# Altium schematic symbol library HW_ADHERENT_LANECTRL_R1.SchLib: 1635 symbols (part 4 of 31)
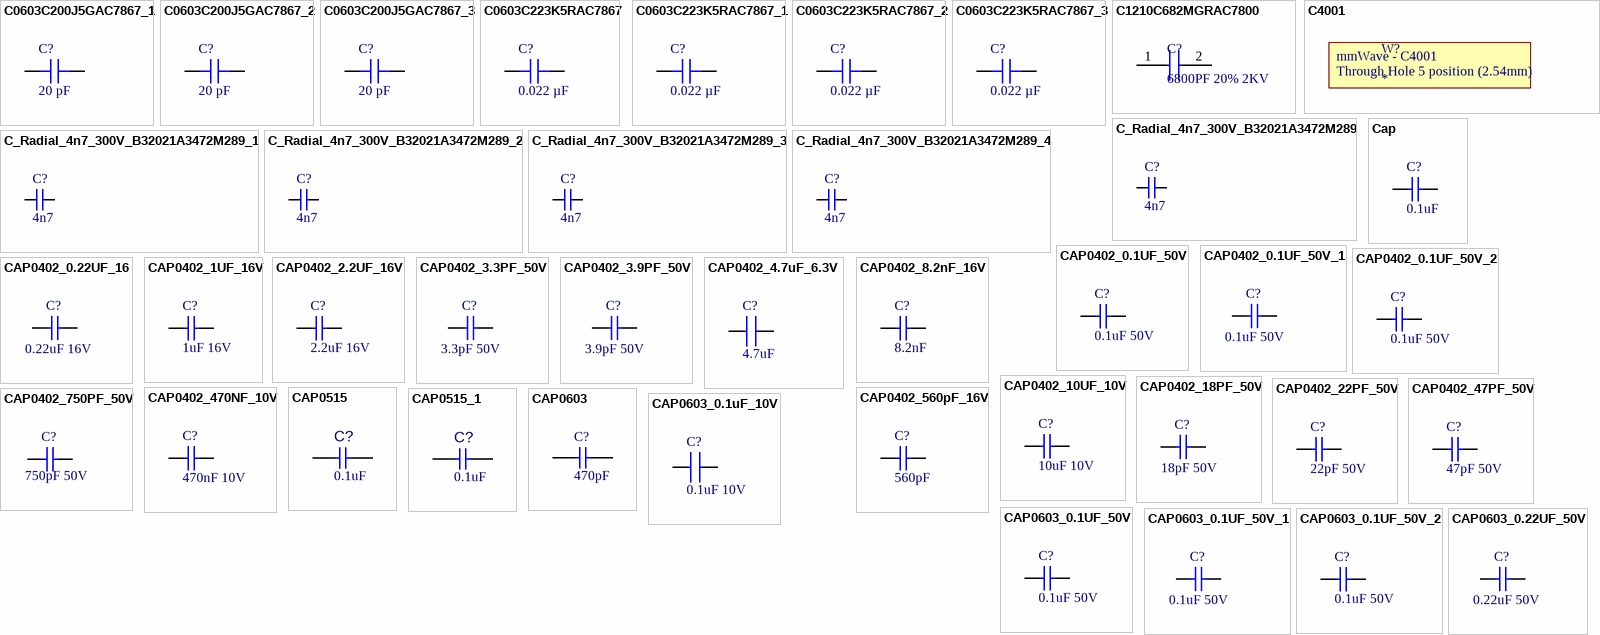
[diagram p54: symbols C0603C200J5GAC7867_1 to CAP0603_0.22UF_50V]

## CAP0402_0.1UF_50V
designator C?, comment value 0.1uF 50V  (hidden comment: CAP CER 0.1UF 50V X7R 0402)
0.1 µF ±10% 50V Ceramic Capacitor X7R 0402 (1005 Metric); Manufacturer Part Number: CL05B104KB54PNC; Order Code: DIGI: 1276-CL05B104KB54PNCTR-ND; Sirius Stock Code: *; LCSC Part Number: C307331; LCSC Manufacturer Part Number: CL05B104KB54PNC
footprint CAP0402(1005)x0.5
pins: 1, 2

## CAP0402_0.1UF_50V_1
designator C?, comment value 0.1uF 50V  (hidden comment: CAP CER 0.1UF 50V X7R 0402)
0.1 µF ±10% 50V Ceramic Capacitor X7R 0402 (1005 Metric); Manufacturer Part Number: GCM155R71H104KE02J; Order Code: DIGI: 490-14514-2-ND
footprint SMC0402
pins: 1, 2

## CAP0402_0.1UF_50V_2
designator C?, comment value 0.1uF 50V  (hidden comment: CAP CER 0.1UF 50V X7R 0402)
0.1 µF ±10% 50V Ceramic Capacitor X7R 0402 (1005 Metric); Manufacturer Part Number: CL05B104KB54PNC; Order Code: DIGI: 1276-CL05B104KB54PNCTR-ND; Sirius Stock Code: *; LCSC Part Number: C307331; LCSC Manufacturer Part Number: CL05B104KB54PNC
footprint CAP0402(1005)x0.5
pins: 1, 2

## CAP0402_0.22UF_16
designator C?, comment value 0.22uF 16V  (hidden comment: CAP CER 0.22UF 16V X7R 0402)
0.22 µF ±10% 16V Ceramic Capacitor X7R 0402 (1005 Metric); Manufacturer Part Number: GCM155R71C224KE02D; Order Code: DIGI: 490-10671-2-ND
footprint SMC0402
pins: 1, 2

## CAP0402_1UF_16V
designator C?, comment value 1uF 16V  (hidden comment: CAP CER 1UF 16V X5R 0402)
1 µF ±10% 16V Ceramic Capacitor X5R 0402 (1005 Metric); Manufacturer Part Number: CL05A105KO5NNNC; Order Code: DIGI: 1276-1067-2-ND; Sirius Stock Code: *; LCSC Part Number: C29266; LCSC Manufacturer Part Number: CL05A105KO5NNNC
footprint CAP0402(1005)x0.5
pins: 1, 2

## CAP0402_2.2UF_16V
designator C?, comment value 2.2uF 16V  (hidden comment: CAP CER 2.2UF 16V X5R 0402)
2.2 µF ±10% 16V Ceramic Capacitor X5R 0402 (1005 Metric); Manufacturer Part Number: CL05A225KO5NQNC; Order Code: DIGI: 1276-1461-2-ND; Sirius Stock Code: *; LCSC Part Number: C170151; LCSC Manufacturer Part Number: CL05A225KO5NQNC
footprint CAP0402(1005)x0.5
pins: 1, 2

## CAP0402_3.3PF_50V
designator C?, comment value 3.3pF 50V  (hidden comment: CAP CER 3.3PF 50V C0G/NP0 0402)
3.3 pF ±0.25pF 50V Ceramic Capacitor C0G, NP0 0402 (1005 Metric); Manufacturer Part Number: GCM1555C1H3R3CA16D; Order Code: DIGI: 490-17751-2-ND
footprint SMC0402
pins: 1, 2

## CAP0402_3.9PF_50V
designator C?, comment value 3.9pF 50V  (hidden comment: CAP CER 3.9PF 50V C0G/NP0 0402)
3.9 pF ±0.25pF 50V Ceramic Capacitor C0G, NP0 0402 (1005 Metric); Manufacturer Part Number: GCM1555C1H3R9CA16D; Order Code: DIGI: 490-14870-2-ND
footprint SMC0402
pins: 1, 2

## CAP0402_4.7uF_6.3V
designator C?, comment 4.7uF
4.7 µF ±20% 6.3V Ceramic Capacitor X5R 0402 (1005 Metric); Manufacturer Part Number: GRM155R60J475ME87D; Manufacturer Name: TDK Corporation; Capacitance: 4.7uF 6.3V; Tolerance: ±10%; Voltage - Rated: 6.3V
footprint CAP0402
pins: 1, 2

## CAP0402_8.2nF_16V
designator C?, comment 8.2nF
8200 pF ±10% 16V Ceramic Capacitor X7R 0402 (1005 Metric); Manufacturer Part Number: GRM155R71C822KA01D; LCSC Manufacturer Part Number: CL05C150JB5NNNC; Order Code: DIGI: 1276-1179-2-ND; Sirius Stock Code: *; LCSC Part Number: C86285; Value: 8.2nF
footprint CAP0402
pins: 1, 2

## CAP0402_10UF_10V
designator C?, comment value 10uF 10V  (hidden comment: CAP CER 10UF 10V X5R 0402)
10 µF ±20% 10V Ceramic Capacitor X5R 0402 (1005 Metric); Manufacturer Part Number: CL05A106MP5NUNC; Order Code: DIGI: 1276-1450-2-ND; Sirius Stock Code: *; LCSC Part Number: C315248; LCSC Manufacturer Part Number: CL05A106MP5NUNC
footprint CAP0402(1005)x0.5
pins: 1, 2

## CAP0402_18PF_50V
designator C?, comment value 18pF 50V  (hidden comment: CAP CER 18PF 50V C0G/NPO 0402)
18 pF ±5% 50V Ceramic Capacitor C0G, NP0 0402 (1005 Metric); Manufacturer Part Number: CC0402JRNPO9BN180; Order Code: DIGI: 311-1415-2-ND; Sirius Stock Code: *; LCSC Part Number: C106202; LCSC Manufacturer Part Number: CC0402JRNPO9BN180
footprint CAP0402(1005)x0.5
pins: 1, 2

## CAP0402_22PF_50V
designator C?, comment value 22pF 50V  (hidden comment: CAP CER 22PF 50V C0G/NPO 0402)
22 pF ±5% 50V Ceramic Capacitor C0G, NP0 0402 (1005 Metric); Manufacturer Part Number: CC0402JRNPO9BN220; Order Code: DIGI: 311-1018-2-ND; Sirius Stock Code: *; LCSC Part Number: C106203; LCSC Manufacturer Part Number: CC0402JRNPO9BN220
footprint CAP0402(1005)x0.5
pins: 1, 2

## CAP0402_47PF_50V
designator C?, comment value 47pF 50V  (hidden comment: CAP CER 47PF 50V C0G/NPO 0402)
47 pF ±5% 50V Ceramic Capacitor C0G, NP0 0402 (1005 Metric); Manufacturer Part Number: CC0402JRNPO9BN470; Order Code: DIGI: 311-1021-2-ND; Sirius Stock Code: *; LCSC Part Number: C60137; LCSC Manufacturer Part Number: CC0402JRNPO9BN470
footprint CAP0402(1005)x0.5
pins: 1, 2

## CAP0402_470NF_10V
designator C?, comment value 470nF 10V  (hidden comment: CAP CER 0.47UF 10V X5R 0402)
0.47 µF ±10% 10V Ceramic Capacitor X5R 0402 (1005 Metric); Manufacturer Part Number: CL05A474KP5NNNC; Order Code: DIGI: 1276-1173-2-ND; Sirius Stock Code: *; LCSC Part Number: C47339; LCSC Manufacturer Part Number: CL05A474KP5NNNC
footprint CAP0402(1005)x0.5
pins: 1, 2

## CAP0402_560pF_16V
designator C?, comment 560pF
560 pF ±1% 16V Ceramic Capacitor X8R 0402 (1005 Metric); Manufacturer Part Number: C0402C561F4HACAUTO; LCSC Manufacturer Part Number: CL05C150JB5NNNC; Order Code: DIGI: 1276-1179-2-ND; Sirius Stock Code: *; LCSC Part Number: C86285; Value: 560pF
footprint CAP0402
pins: 1, 2

## CAP0402_750PF_50V
designator C?, comment value 750pF 50V  (hidden comment: CAP CER 750PF 50V C0G/NP0 0402)
750 pF ±5% 50V Ceramic Capacitor C0G, NP0 0402 (1005 Metric); Manufacturer Part Number: GCM1555C1H751JA16D; Order Code: DIGI: 490-GCM1555C1H751JA16DTR-ND; Sirius Stock Code: *; LCSC Part Number: C710656; LCSC Manufacturer Part Number: GCM1555C1H751JA16D
footprint CAP0402(1005)x0.5
pins: 1, 2

## CAP0515
designator C?, comment 0.1uF
CAP CER 0.1UF 50V X7R 0402; Manufacturer Part Number: C1005X7R1H104K050BB; Manufacturer: TDK Corporation; Value: 0.1uF; Revision: 1; Supplier Part Number: 445-5932-1-ND
footprint 0402_C (MODIFIED BY DN_MH - 16JAN17; CHECKED BY DN_TN - 18JAN17)
pins: 1, 2

## CAP0515_1
designator C?, comment 0.1uF
CAP CER 0.1UF 50V X7R 0402; Manufacturer Part Number: C1005X7R1H104K050BB; Manufacturer: TDK Corporation; Value: 0.1uF; Revision: 1; Supplier Part Number: 445-5932-1-ND
footprint 0402_C (MODIFIED BY DN_MH - 16JAN17; CHECKED BY DN_TN - 18JAN17)
pins: 1, 2

## CAP0603
designator C?, comment 470pF
CAP, MLCC, C0G/NP0, 470PF, 50V, 0603; Product Range:YAGEO - CC Series; Capacitance:470pF; Capacitance Tolerance:± 5%; Dielectric Characteristic:C0G / NP0; Voltage Rating:50V; Ceramic Capacitor Case:0603 [1608 Metric]; Operating ;RoHS Compliant: Yes; Manufacturer: Yageo; Manufacturer Part Number: CC0603JRNPO9BN471; Dielectric: C0G; Insulation Resistance: 100GR; ComponentLink1URL: https://chn-vm-apps.microchip.com/mchprepo/parts/Datasheets/smccp.pdf; ComponentLink1Description: Datasheet; Supplier 1: Digi-Key; Supplier Part Number 1: 311-1520-1-ND; RoHS: Yes; Category: Ceramic Capacitors; Stock 1: 310942; Pricing 1: 1=0,12000, 10=0,08400, 50=0,04780, 100=0,03970, 500=0,02782, 1000=0,02303 (USD); Mount: Surface Mount; Case/Package: 0603; Number of Pins: 2; Case Code (Metric): 1608; Case Code (Imperial): 0603; Dielectric Material: Ceramic; Min Operating Temperature: -55°C; Max Operating Temperature: 125°C; Capacitance: 470pF; Tolerance: 5%; Voltage: 50V; Voltage Rating: 50V; Packaging: Tape and Reel; Voltage Rating (DC): 50V; Package Quantity: 1; Termination: SMD/SMT; Resistor Type: Ceramic; Series: CC; Length: 1.6mm; Width: 0.031inch; Height: 0.8mm; Depth: 0.8mm; Thickness: 0.035inch; Radiation Hardening: No; RoHS Compliant: Yes; REACH SVHC: No SVHC; Lead Free: Lead Free; ComponentLink2URL: https://datasheet.ciiva.com/176/mlccorderingcode-176597.pdf?src-supplier=Digi-Key; ComponentLink2Description: https://datasheet.ciiva.com/176/mlccorderingcode-176597.pdf?src-supplier=Digi-Key; ComponentLink3URL: https://datasheet.ciiva.com/7978/1132289-7978149.pdf?src-supplier=Element14; ComponentLink3Description: https://datasheet.ciiva.com/7978/1132289-7978149.pdf?src-supplier=Element14; ComponentLink4URL: https://datasheet.ciiva.com/176/mlccorderingcode-176598.pdf?src-supplier=Digi-Key; ComponentLink4Description: https://datasheet.ciiva.com/176/mlccorderingcode-176598.pdf?src-supplier=Digi-Key; ComponentLink5URL: https://datasheet.ciiva.com/8033/1734582-8033750.pdf?src-supplier=Element14; ComponentLink5Description: https://datasheet.ciiva.com/8033/1734582-8033750.pdf?src-supplier=Element14; ComponentLink6URL: https://datasheet.ciiva.com/176/mlccorderingcode-176599.pdf?src-supplier=Digi-Key; ComponentLink6Description: https://datasheet.ciiva.com/176/mlccorderingcode-176599.pdf?src-supplier=Digi-Key; ComponentLink7URL: https://datasheet.ciiva.com/15189/getdatasheetpartid-403537-15189147.pdf?src-supplier=Verical; ComponentLink7Description: https://datasheet.ciiva.com/15189/getdatasheetpartid-403537-15189147.pdf?src-supplier=Verical; ComponentLink8URL: https://datasheet.ciiva.com/11464/upy-gp-np0-16v-to-50v-8-11464732.pdf?src-supplier=Avnet; ComponentLink8Description: https://datasheet.ciiva.com/11464/upy-gp-np0-16v-to-50v-8-11464732.pdf?src-supplier=Avnet; ComponentLink9URL: https://datasheet.ciiva.com/13386/upy-gp-np0-16v-to-50v-8-13386333.pdf?src-supplier=Mouser; ComponentLink9Description: https://datasheet.ciiva.com/13386/upy-gp-np0-16v-to-50v-8-13386333.pdf?src-supplier=Mouser; ComponentLink10URL: https://datasheet.ciiva.com/28450/1443161-28450510.pdf?src-supplier=Element14; ComponentLink10Description: https://datasheet.ciiva.com/28450/1443161-28450510.pdf?src-supplier=Element14
footprint C 0603(1608)x0.8_3
pins: 1, 2

## CAP0603_0.1uF_10V
designator C?, comment 0.1uF 10V
0.1 µF ±10% 10V Ceramic Capacitor X7R 0603 (1608 Metric); Manufacturer Name: AVX; Manufacturer Part Number: 0603ZC104KAT2A; Datasheet Link: https://componentsearchengine.com/Datasheets/1/06031A100FAT2A.pdf; Height: 0.9mm; Mouser Part Number: 581-0603ZC104K; Mouser Price/Stock: https://www.mouser.co.uk/ProductDetail/AVX/0603ZC104KAT2A?qs=pf7pOjfHGZYfu9op9dQPDA%3D%3D; Arrow Part Number: 0603ZC104KAT2A; Arrow Price/Stock: https://www.arrow.com/en/products/0603zc104kat2a/avx
footprint CAP0603
pins: 1, 2

## CAP0603_0.1UF_50V
designator C?, comment value 0.1uF 50V  (hidden comment: CAP CER 0.1UF 50V X7R 0603)
0.1 µF ±10% 50V Ceramic Capacitor X7R 0603 (1608 Metric); Manufacturer Part Number: CL10B104KB8NNNL; LCSC Manufacturer Part Number: CL10B104KB8NNNC; Order Code: DIGI:1276-CL10B104KB8NNNLTR-ND; Sirius Stock Code: A063-AGC10300001226; LCSC Part Number: C1591
footprint SMC0603
pins: 1, 2

## CAP0603_0.1UF_50V_1
designator C?, comment value 0.1uF 50V  (hidden comment: CAP CER 0.1UF 50V X7R 0603)
0.1 µF ±10% 50V Ceramic Capacitor X7R 0603 (1608 Metric); Manufacturer Part Number: CL10B104KB8WPNC; Order Code: DIGI: 1276-6854-2-ND
footprint SMC0603
pins: 1, 2

## CAP0603_0.1UF_50V_2
designator C?, comment value 0.1uF 50V  (hidden comment: CAP CER 0.1UF 50V X7R 0603)
0.1 µF ±10% 50V Ceramic Capacitor X7R 0603 (1608 Metric); Manufacturer Part Number: CL10B104KB8NNNL; LCSC Manufacturer Part Number: CL10B104KB8NNNC; Order Code: DIGI:1276-CL10B104KB8NNNLTR-ND; Sirius Stock Code: A063-AGC10300001226; LCSC Part Number: C1591
footprint SMC0603
pins: 1, 2

## CAP0603_0.22UF_50V
designator C?, comment value 0.22uF 50V  (hidden comment: CAP CER 0.22UF 50V X7R 0603)
0.22 µF ±10% 50V Ceramic Capacitor X7R 0603 (1608 Metric); Manufacturer Part Number: GCM188R71H224KA64D; Order Code: DIGI: 490-5402-2-ND
footprint SMC0603
pins: 1, 2

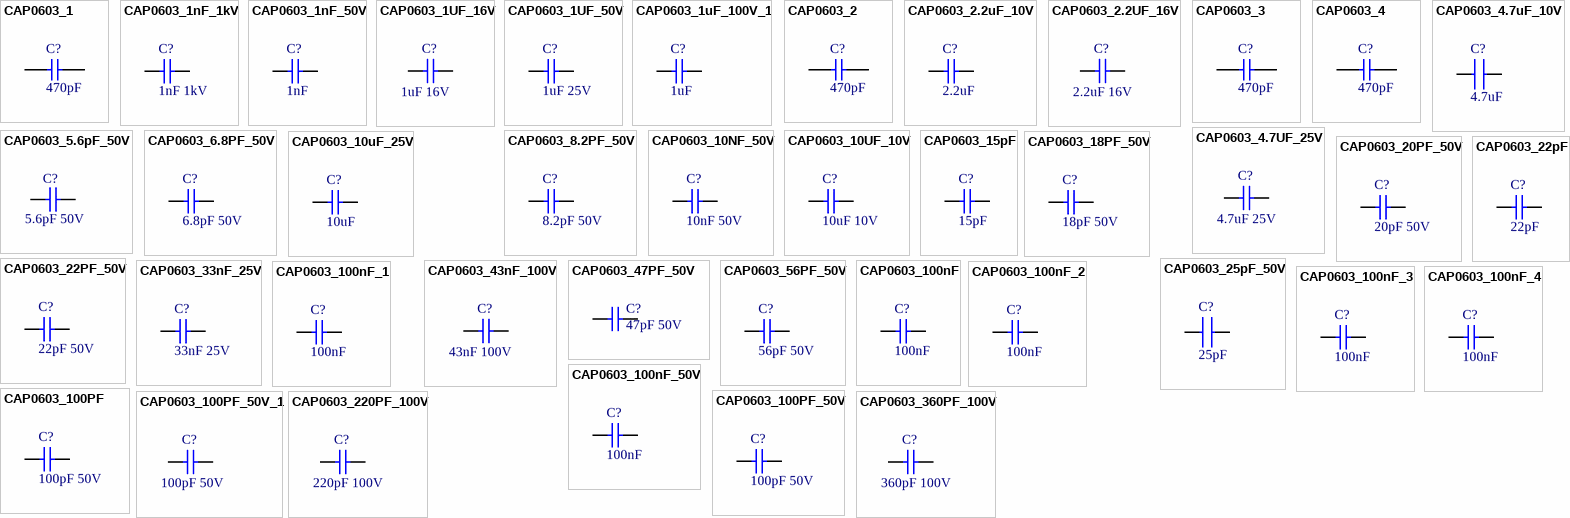
[diagram p7: symbols CAP0603_1 to CAP0603_360PF_100V]

## CAP0603_1
designator C?, comment 470pF
CAP, MLCC, C0G/NP0, 470PF, 50V, 0603; Product Range:YAGEO - CC Series; Capacitance:470pF; Capacitance Tolerance:± 5%; Dielectric Characteristic:C0G / NP0; Voltage Rating:50V; Ceramic Capacitor Case:0603 [1608 Metric]; Operating ;RoHS Compliant: Yes; Manufacturer: Yageo; Manufacturer Part Number: CC0603JRNPO9BN471; Dielectric: C0G; Insulation Resistance: 100GR; ComponentLink1URL: https://chn-vm-apps.microchip.com/mchprepo/parts/Datasheets/smccp.pdf; ComponentLink1Description: Datasheet; Supplier 1: Digi-Key; Supplier Part Number 1: 311-1520-1-ND; RoHS: Yes; Category: Ceramic Capacitors; Stock 1: 310942; Pricing 1: 1=0,12000, 10=0,08400, 50=0,04780, 100=0,03970, 500=0,02782, 1000=0,02303 (USD); Mount: Surface Mount; Case/Package: 0603; Number of Pins: 2; Case Code (Metric): 1608; Case Code (Imperial): 0603; Dielectric Material: Ceramic; Min Operating Temperature: -55°C; Max Operating Temperature: 125°C; Capacitance: 470pF; Tolerance: 5%; Voltage: 50V; Voltage Rating: 50V; Packaging: Tape and Reel; Voltage Rating (DC): 50V; Package Quantity: 1; Termination: SMD/SMT; Resistor Type: Ceramic; Series: CC; Length: 1.6mm; Width: 0.031inch; Height: 0.8mm; Depth: 0.8mm; Thickness: 0.035inch; Radiation Hardening: No; RoHS Compliant: Yes; REACH SVHC: No SVHC; Lead Free: Lead Free; ComponentLink2URL: https://datasheet.ciiva.com/176/mlccorderingcode-176597.pdf?src-supplier=Digi-Key; ComponentLink2Description: https://datasheet.ciiva.com/176/mlccorderingcode-176597.pdf?src-supplier=Digi-Key; ComponentLink3URL: https://datasheet.ciiva.com/7978/1132289-7978149.pdf?src-supplier=Element14; ComponentLink3Description: https://datasheet.ciiva.com/7978/1132289-7978149.pdf?src-supplier=Element14; ComponentLink4URL: https://datasheet.ciiva.com/176/mlccorderingcode-176598.pdf?src-supplier=Digi-Key; ComponentLink4Description: https://datasheet.ciiva.com/176/mlccorderingcode-176598.pdf?src-supplier=Digi-Key; ComponentLink5URL: https://datasheet.ciiva.com/8033/1734582-8033750.pdf?src-supplier=Element14; ComponentLink5Description: https://datasheet.ciiva.com/8033/1734582-8033750.pdf?src-supplier=Element14; ComponentLink6URL: https://datasheet.ciiva.com/176/mlccorderingcode-176599.pdf?src-supplier=Digi-Key; ComponentLink6Description: https://datasheet.ciiva.com/176/mlccorderingcode-176599.pdf?src-supplier=Digi-Key; ComponentLink7URL: https://datasheet.ciiva.com/15189/getdatasheetpartid-403537-15189147.pdf?src-supplier=Verical; ComponentLink7Description: https://datasheet.ciiva.com/15189/getdatasheetpartid-403537-15189147.pdf?src-supplier=Verical; ComponentLink8URL: https://datasheet.ciiva.com/11464/upy-gp-np0-16v-to-50v-8-11464732.pdf?src-supplier=Avnet; ComponentLink8Description: https://datasheet.ciiva.com/11464/upy-gp-np0-16v-to-50v-8-11464732.pdf?src-supplier=Avnet; ComponentLink9URL: https://datasheet.ciiva.com/13386/upy-gp-np0-16v-to-50v-8-13386333.pdf?src-supplier=Mouser; ComponentLink9Description: https://datasheet.ciiva.com/13386/upy-gp-np0-16v-to-50v-8-13386333.pdf?src-supplier=Mouser; ComponentLink10URL: https://datasheet.ciiva.com/28450/1443161-28450510.pdf?src-supplier=Element14; ComponentLink10Description: https://datasheet.ciiva.com/28450/1443161-28450510.pdf?src-supplier=Element14
footprint C 0603(1608)x0.8_3
pins: 1, 2

## CAP0603_1nF_1kV
designator C?, comment 1nF 1kV
1000 pF ±10% 1000V (1kV) Ceramic Capacitor X7R 0603 (1608 Metric); Manufacturer Part Number: C0603W102KDRACAUTO; Order Code: DIGI:1276-CL10B104KB8NNNLTR-ND; Sirius Stock Code: A063-AGC10300001226; Value: 1nF 1kV
footprint CAP0603 (CAPACITOR 0603)
pins: 1, 2

## CAP0603_1nF_50V
designator C?, comment 1nF
1000 pF ±10% 50V Ceramic Capacitor X7R 0603 (1608 Metric); Manufacturer Part Number: CL10B102KB8NNNC; Order Code: DIGI:1276-CL10B104KB8NNNLTR-ND; Sirius Stock Code: A063-AGC10300001226; Value: 1nF 50V
footprint CAP0603 (CAPACITOR 0603)
pins: 1, 2

## CAP0603_1UF_16V
designator C?, comment value 1uF 16V  (hidden comment: CAP CER 1UF 16V X7R 0603)
1 µF ±10% 16V Ceramic Capacitor X7R 0603 (1608 Metric); Manufacturer Part Number: CGA3E1X7R1C105K080AC; Order Code: DIGI: 445-12539-2-ND
footprint SMC0603
pins: 1, 2

## CAP0603_1UF_50V
designator C?, comment value 1uF 25V  (hidden comment: CAP CER 1UF 25V X5R 0603)
1 µF ±10% 25V Ceramic Capacitor X5R 0603 (1608 Metric); Manufacturer Part Number: CL10A105KA8NNNC; Order Code: Digi: 1276-1102-2-ND; Sirius Stock Code: *; LCSC Part Number: C5673; LCSC Manufacturer Part Number: CL10A105KA8NNNC
footprint SMC0603
pins: 1, 2

## CAP0603_1uF_100V_1
designator C?, comment value 1uF  (hidden comment: 1uF 100V)
1 µF ±10% 100V Ceramic Capacitor X7R 0805 (2012 Metric); Manufacturer Part Number: 08051C105K4Z2A; Order Code: DIGI : 399-1061-1-ND
footprint CAP0603
pins: 1, 2

## CAP0603_2
designator C?, comment 470pF
CAP, MLCC, C0G/NP0, 470PF, 50V, 0603; Product Range:YAGEO - CC Series; Capacitance:470pF; Capacitance Tolerance:± 5%; Dielectric Characteristic:C0G / NP0; Voltage Rating:50V; Ceramic Capacitor Case:0603 [1608 Metric]; Operating ;RoHS Compliant: Yes; Manufacturer: Yageo; Manufacturer Part Number: CC0603JRNPO9BN471; Dielectric: C0G; Insulation Resistance: 100GR; ComponentLink1URL: https://chn-vm-apps.microchip.com/mchprepo/parts/Datasheets/smccp.pdf; ComponentLink1Description: Datasheet; Supplier 1: Digi-Key; Supplier Part Number 1: 311-1520-1-ND; RoHS: Yes; Category: Ceramic Capacitors; Stock 1: 310942; Pricing 1: 1=0,12000, 10=0,08400, 50=0,04780, 100=0,03970, 500=0,02782, 1000=0,02303 (USD); Mount: Surface Mount; Case/Package: 0603; Number of Pins: 2; Case Code (Metric): 1608; Case Code (Imperial): 0603; Dielectric Material: Ceramic; Min Operating Temperature: -55°C; Max Operating Temperature: 125°C; Capacitance: 470pF; Tolerance: 5%; Voltage: 50V; Voltage Rating: 50V; Packaging: Tape and Reel; Voltage Rating (DC): 50V; Package Quantity: 1; Termination: SMD/SMT; Resistor Type: Ceramic; Series: CC; Length: 1.6mm; Width: 0.031inch; Height: 0.8mm; Depth: 0.8mm; Thickness: 0.035inch; Radiation Hardening: No; RoHS Compliant: Yes; REACH SVHC: No SVHC; Lead Free: Lead Free; ComponentLink2URL: https://datasheet.ciiva.com/176/mlccorderingcode-176597.pdf?src-supplier=Digi-Key; ComponentLink2Description: https://datasheet.ciiva.com/176/mlccorderingcode-176597.pdf?src-supplier=Digi-Key; ComponentLink3URL: https://datasheet.ciiva.com/7978/1132289-7978149.pdf?src-supplier=Element14; ComponentLink3Description: https://datasheet.ciiva.com/7978/1132289-7978149.pdf?src-supplier=Element14; ComponentLink4URL: https://datasheet.ciiva.com/176/mlccorderingcode-176598.pdf?src-supplier=Digi-Key; ComponentLink4Description: https://datasheet.ciiva.com/176/mlccorderingcode-176598.pdf?src-supplier=Digi-Key; ComponentLink5URL: https://datasheet.ciiva.com/8033/1734582-8033750.pdf?src-supplier=Element14; ComponentLink5Description: https://datasheet.ciiva.com/8033/1734582-8033750.pdf?src-supplier=Element14; ComponentLink6URL: https://datasheet.ciiva.com/176/mlccorderingcode-176599.pdf?src-supplier=Digi-Key; ComponentLink6Description: https://datasheet.ciiva.com/176/mlccorderingcode-176599.pdf?src-supplier=Digi-Key; ComponentLink7URL: https://datasheet.ciiva.com/15189/getdatasheetpartid-403537-15189147.pdf?src-supplier=Verical; ComponentLink7Description: https://datasheet.ciiva.com/15189/getdatasheetpartid-403537-15189147.pdf?src-supplier=Verical; ComponentLink8URL: https://datasheet.ciiva.com/11464/upy-gp-np0-16v-to-50v-8-11464732.pdf?src-supplier=Avnet; ComponentLink8Description: https://datasheet.ciiva.com/11464/upy-gp-np0-16v-to-50v-8-11464732.pdf?src-supplier=Avnet; ComponentLink9URL: https://datasheet.ciiva.com/13386/upy-gp-np0-16v-to-50v-8-13386333.pdf?src-supplier=Mouser; ComponentLink9Description: https://datasheet.ciiva.com/13386/upy-gp-np0-16v-to-50v-8-13386333.pdf?src-supplier=Mouser; ComponentLink10URL: https://datasheet.ciiva.com/28450/1443161-28450510.pdf?src-supplier=Element14; ComponentLink10Description: https://datasheet.ciiva.com/28450/1443161-28450510.pdf?src-supplier=Element14
footprint C 0603(1608)x0.8_3
pins: 1, 2

## CAP0603_2.2uF_10V
designator C?, comment 2.2uF
2.2 µF ±10% 10V Ceramic Capacitor X5R 0603 (1608 Metric); Manufacturer Name: KEMET; Manufacturer Part Number: C0603C225K8PAC7867; Datasheet Link: https://componentsearchengine.com/Datasheets/1/06031A100FAT2A.pdf; Height: 0.9mm
footprint CAP0603
pins: 1, 2

## CAP0603_2.2UF_16V
designator C?, comment value 2.2uF 16V  (hidden comment: CAP CER 4.7UF 25V X5R 0603)
2.2 µF ±10% 16V Ceramic Capacitor X7S 0603 (1608 Metric); Manufacturer Part Number: GRT188C71C225KE13D; Order Code: DIGI: 490-GRT188C71C225KE13DTR-ND
footprint SMC0603
pins: 1, 2

## CAP0603_3
designator C?, comment 470pF
CAP, MLCC, C0G/NP0, 470PF, 50V, 0603; Product Range:YAGEO - CC Series; Capacitance:470pF; Capacitance Tolerance:± 5%; Dielectric Characteristic:C0G / NP0; Voltage Rating:50V; Ceramic Capacitor Case:0603 [1608 Metric]; Operating ;RoHS Compliant: Yes; Manufacturer: Yageo; Manufacturer Part Number: CC0603JRNPO9BN471; Dielectric: C0G; Insulation Resistance: 100GR; ComponentLink1URL: https://chn-vm-apps.microchip.com/mchprepo/parts/Datasheets/smccp.pdf; ComponentLink1Description: Datasheet; Supplier 1: Digi-Key; Supplier Part Number 1: 311-1520-1-ND; RoHS: Yes; Category: Ceramic Capacitors; Stock 1: 310942; Pricing 1: 1=0,12000, 10=0,08400, 50=0,04780, 100=0,03970, 500=0,02782, 1000=0,02303 (USD); Mount: Surface Mount; Case/Package: 0603; Number of Pins: 2; Case Code (Metric): 1608; Case Code (Imperial): 0603; Dielectric Material: Ceramic; Min Operating Temperature: -55°C; Max Operating Temperature: 125°C; Capacitance: 470pF; Tolerance: 5%; Voltage: 50V; Voltage Rating: 50V; Packaging: Tape and Reel; Voltage Rating (DC): 50V; Package Quantity: 1; Termination: SMD/SMT; Resistor Type: Ceramic; Series: CC; Length: 1.6mm; Width: 0.031inch; Height: 0.8mm; Depth: 0.8mm; Thickness: 0.035inch; Radiation Hardening: No; RoHS Compliant: Yes; REACH SVHC: No SVHC; Lead Free: Lead Free; ComponentLink2URL: https://datasheet.ciiva.com/176/mlccorderingcode-176597.pdf?src-supplier=Digi-Key; ComponentLink2Description: https://datasheet.ciiva.com/176/mlccorderingcode-176597.pdf?src-supplier=Digi-Key; ComponentLink3URL: https://datasheet.ciiva.com/7978/1132289-7978149.pdf?src-supplier=Element14; ComponentLink3Description: https://datasheet.ciiva.com/7978/1132289-7978149.pdf?src-supplier=Element14; ComponentLink4URL: https://datasheet.ciiva.com/176/mlccorderingcode-176598.pdf?src-supplier=Digi-Key; ComponentLink4Description: https://datasheet.ciiva.com/176/mlccorderingcode-176598.pdf?src-supplier=Digi-Key; ComponentLink5URL: https://datasheet.ciiva.com/8033/1734582-8033750.pdf?src-supplier=Element14; ComponentLink5Description: https://datasheet.ciiva.com/8033/1734582-8033750.pdf?src-supplier=Element14; ComponentLink6URL: https://datasheet.ciiva.com/176/mlccorderingcode-176599.pdf?src-supplier=Digi-Key; ComponentLink6Description: https://datasheet.ciiva.com/176/mlccorderingcode-176599.pdf?src-supplier=Digi-Key; ComponentLink7URL: https://datasheet.ciiva.com/15189/getdatasheetpartid-403537-15189147.pdf?src-supplier=Verical; ComponentLink7Description: https://datasheet.ciiva.com/15189/getdatasheetpartid-403537-15189147.pdf?src-supplier=Verical; ComponentLink8URL: https://datasheet.ciiva.com/11464/upy-gp-np0-16v-to-50v-8-11464732.pdf?src-supplier=Avnet; ComponentLink8Description: https://datasheet.ciiva.com/11464/upy-gp-np0-16v-to-50v-8-11464732.pdf?src-supplier=Avnet; ComponentLink9URL: https://datasheet.ciiva.com/13386/upy-gp-np0-16v-to-50v-8-13386333.pdf?src-supplier=Mouser; ComponentLink9Description: https://datasheet.ciiva.com/13386/upy-gp-np0-16v-to-50v-8-13386333.pdf?src-supplier=Mouser; ComponentLink10URL: https://datasheet.ciiva.com/28450/1443161-28450510.pdf?src-supplier=Element14; ComponentLink10Description: https://datasheet.ciiva.com/28450/1443161-28450510.pdf?src-supplier=Element14
footprint C 0603(1608)x0.8_3
pins: 1, 2

## CAP0603_4
designator C?, comment 470pF
CAP, MLCC, C0G/NP0, 470PF, 50V, 0603; Product Range:YAGEO - CC Series; Capacitance:470pF; Capacitance Tolerance:± 5%; Dielectric Characteristic:C0G / NP0; Voltage Rating:50V; Ceramic Capacitor Case:0603 [1608 Metric]; Operating ;RoHS Compliant: Yes; Manufacturer: Yageo; Manufacturer Part Number: CC0603JRNPO9BN471; Dielectric: C0G; Insulation Resistance: 100GR; ComponentLink1URL: https://chn-vm-apps.microchip.com/mchprepo/parts/Datasheets/smccp.pdf; ComponentLink1Description: Datasheet; Supplier 1: Digi-Key; Supplier Part Number 1: 311-1520-1-ND; RoHS: Yes; Category: Ceramic Capacitors; Stock 1: 310942; Pricing 1: 1=0,12000, 10=0,08400, 50=0,04780, 100=0,03970, 500=0,02782, 1000=0,02303 (USD); Mount: Surface Mount; Case/Package: 0603; Number of Pins: 2; Case Code (Metric): 1608; Case Code (Imperial): 0603; Dielectric Material: Ceramic; Min Operating Temperature: -55°C; Max Operating Temperature: 125°C; Capacitance: 470pF; Tolerance: 5%; Voltage: 50V; Voltage Rating: 50V; Packaging: Tape and Reel; Voltage Rating (DC): 50V; Package Quantity: 1; Termination: SMD/SMT; Resistor Type: Ceramic; Series: CC; Length: 1.6mm; Width: 0.031inch; Height: 0.8mm; Depth: 0.8mm; Thickness: 0.035inch; Radiation Hardening: No; RoHS Compliant: Yes; REACH SVHC: No SVHC; Lead Free: Lead Free; ComponentLink2URL: https://datasheet.ciiva.com/176/mlccorderingcode-176597.pdf?src-supplier=Digi-Key; ComponentLink2Description: https://datasheet.ciiva.com/176/mlccorderingcode-176597.pdf?src-supplier=Digi-Key; ComponentLink3URL: https://datasheet.ciiva.com/7978/1132289-7978149.pdf?src-supplier=Element14; ComponentLink3Description: https://datasheet.ciiva.com/7978/1132289-7978149.pdf?src-supplier=Element14; ComponentLink4URL: https://datasheet.ciiva.com/176/mlccorderingcode-176598.pdf?src-supplier=Digi-Key; ComponentLink4Description: https://datasheet.ciiva.com/176/mlccorderingcode-176598.pdf?src-supplier=Digi-Key; ComponentLink5URL: https://datasheet.ciiva.com/8033/1734582-8033750.pdf?src-supplier=Element14; ComponentLink5Description: https://datasheet.ciiva.com/8033/1734582-8033750.pdf?src-supplier=Element14; ComponentLink6URL: https://datasheet.ciiva.com/176/mlccorderingcode-176599.pdf?src-supplier=Digi-Key; ComponentLink6Description: https://datasheet.ciiva.com/176/mlccorderingcode-176599.pdf?src-supplier=Digi-Key; ComponentLink7URL: https://datasheet.ciiva.com/15189/getdatasheetpartid-403537-15189147.pdf?src-supplier=Verical; ComponentLink7Description: https://datasheet.ciiva.com/15189/getdatasheetpartid-403537-15189147.pdf?src-supplier=Verical; ComponentLink8URL: https://datasheet.ciiva.com/11464/upy-gp-np0-16v-to-50v-8-11464732.pdf?src-supplier=Avnet; ComponentLink8Description: https://datasheet.ciiva.com/11464/upy-gp-np0-16v-to-50v-8-11464732.pdf?src-supplier=Avnet; ComponentLink9URL: https://datasheet.ciiva.com/13386/upy-gp-np0-16v-to-50v-8-13386333.pdf?src-supplier=Mouser; ComponentLink9Description: https://datasheet.ciiva.com/13386/upy-gp-np0-16v-to-50v-8-13386333.pdf?src-supplier=Mouser; ComponentLink10URL: https://datasheet.ciiva.com/28450/1443161-28450510.pdf?src-supplier=Element14; ComponentLink10Description: https://datasheet.ciiva.com/28450/1443161-28450510.pdf?src-supplier=Element14
footprint C 0603(1608)x0.8_3
pins: 1, 2

## CAP0603_4.7uF_10V
designator C?, comment 4.7uF
4.7 µF ±20% 10V Ceramic Capacitor X5R 0603 (1608 Metric); Manufacturer Name: Murata Electronics; Manufacturer Part Number: GRM185R61A475ME11D; Datasheet Link: https://componentsearchengine.com/Datasheets/1/06031A100FAT2A.pdf; Height: 0.9mm
footprint CAP0603
pins: 1, 2

## CAP0603_4.7UF_25V
designator C?, comment value 4.7uF 25V  (hidden comment: CAP CER 4.7UF 25V X5R 0603)
4.7 µF ±10% 25V Ceramic Capacitor X5R 0603 (1608 Metric); Manufacturer Part Number: GRT188R61E475KE13D; Order Code: DIGI: 490-12328-2-ND
footprint SMC0603
pins: 1, 2

## CAP0603_5.6pF_50V
designator C?, comment value 5.6pF 50V  (hidden comment: 5.6pF)
5.6 pF ±5% 50V Ceramic Capacitor C0G, NP0 0603 (1608 Metric); Manufacturer Part Number: GRM1885C1H751JA01D; Order Code: DIGI:1276-CL10B104KB8NNNLTR-ND; Sirius Stock Code: A063-AGC10300001226
footprint CAP0603 (CAPACITOR 0603)
pins: 1, 2

## CAP0603_6.8PF_50V
designator C?, comment value 6.8pF 50V  (hidden comment: CAP CER 6.8PF 50V C0G, NP0 0603)
50V 6.8pF C0G 0603 Multilayer Ceramic Capacitors MLCC - SMD/SMT ROHS; Manufacturer Part Number: 0603CG6R8C500NT; Order Code: LCSC: C1679; Sirius Stock Code: *; LCSC Part Number: C1679; LCSC Manufacturer Part Number: 0603CG6R8C500NT
footprint SMC0603
pins: 1, 2

## CAP0603_8.2PF_50V
designator C?, comment value 8.2pF 50V  (hidden comment: CAP CER 8.2PF 50V C0G/NPO 0603)
8.2 pF ±0.25pF 50V Ceramic Capacitor C0G, NP0 0603 (1608 Metric); Manufacturer Part Number: CC0603CRNPO9BN8R2; Order Code: DIGI : 311-3865-2-ND; LCSC Manufacturer Part Number: CC0603CRNPO9BN8R2; LCSC Part Number: C277519
footprint SMC0603
pins: 1, 2

## CAP0603_10NF_50V
designator C?, comment value 10nF 50V  (hidden comment: CAP CER 10000PF 50V X7R 0603)
10000 pF ±10% 50V Ceramic Capacitor X7R 0603 (1608 Metric); Manufacturer Part Number: CL10B103KB8NNNC; Order Code: DIGI : 1276-1009-2-ND; LCSC Manufacturer Part Number: CL10B103KB8NNNC; LCSC Part Number: C1589
footprint SMC0603
pins: 1, 2

## CAP0603_10UF_10V
designator C?, comment value 10uF 10V  (hidden comment: CAP CER 10UF 10V X5R 0603)
10 µF ±10% 10V Ceramic Capacitor X5R 0603 (1608 Metric); Manufacturer Part Number: CL10A106KP8NNNC; Order Code: DIGI: 1276-1192-2-ND; Sirius Stock Code: *; LCSC Part Number: C19702; LCSC Manufacturer Part Number: CL10A106KP8NNNC
footprint SMC0603
pins: 1, 2

## CAP0603_10uF_25V
designator C?, comment 10uF
10 µF ±10% 25V Ceramic Capacitor X5R 0603 (1608 Metric); Manufacturer Part Number: GRM188R61E106KA73J; Order Code: DIGI:1276-CL10B104KB8NNNLTR-ND; Sirius Stock Code: A063-AGC10300001226; Value: 10uF
footprint CAP0603 (CAPACITOR 0603)
pins: 1, 2

## CAP0603_15pF
designator C?, comment 15pF
CAP CER 15PF 50V C0G/NP0 0603; P/N: 06035A150JAT4A; Order Code: DIGI : 478-10677-1-ND; Value: 15pF 50V
footprint CAP0603 (CAPACITOR 0603)
pins: 1, 2

## CAP0603_18PF_50V
designator C?, comment value 18pF 50V  (hidden comment: CAP CER 18PF 50V C0G/NPO 0603)
18 pF ±5% 50V Ceramic Capacitor C0G, NP0 0603 (1608 Metric); Manufacturer Part Number: CC0603JRNPO9BN180; Order Code: DIGI : 311-1061-2-ND; LCSC Manufacturer Part Number: CC0603JRNPO9BN180; LCSC Part Number: C107040
footprint SMC0603
pins: 1, 2

## CAP0603_20PF_50V
designator C?, comment value 20pF 50V  (hidden comment: CAP CER 20PF 50V C0G/NPO 0603)
20 pF ±5% 50V Ceramic Capacitor C0G, NP0 0603 (1608 Metric); Manufacturer Part Number: CC0603JRNPO9BN200; Order Code: DIGI: 311-1424-2-ND; Sirius Stock Code: *; LCSC Part Number: C105621; LCSC Manufacturer Part Number: CC0603JRNPO9BN200
footprint CAP0603
pins: 1, 2

## CAP0603_22pF
designator C?, comment value 22pF  (hidden comment: 100nF 25V)
22pF; Manufacturer Part Number: CL10B104KA8NNNC; LCSC Part Number: C1590
footprint CAP0603 (CAPACITOR 0603)
pins: 1, 2

## CAP0603_22PF_50V
designator C?, comment value 22pF 50V  (hidden comment: CAP CER 22PF 50V C0G/NPO 0603)
22 pF ±5% 50V Ceramic Capacitor C0G, NP0 0603 (1608 Metric); Manufacturer Part Number: CC0603JRNPO9BN220; Order Code: DIGI: 311-1062-2-ND; Sirius Stock Code: *; LCSC Part Number: C105620; LCSC Manufacturer Part Number: CC0603JRNPO9BN220
footprint SMC0603
pins: 1, 2

## CAP0603_25pF_50V
designator C?, comment 25pF
25 pF ±2% 50V Ceramic Capacitor C0G, NP0 0603 (1608 Metric); Manufacturer Name: KYOCERA AVX; Manufacturer Part Number: 06035A250GAT2A; Datasheet Link: https://componentsearchengine.com/Datasheets/1/06031A100FAT2A.pdf; Height: 0.9mm
footprint CAP0603
pins: 1, 2

## CAP0603_33nF_25V
designator C?, comment value 33nF 25V  (hidden comment: CAP CER 0.033UF 25V X7R 0603)
0.033 µF ±10% 25V Ceramic Capacitor X7R 0603 (1608 Metric); Manufacturer Part Number: 0603B333K250CT; Order Code: DIGI:1276-CL10B104KB8NNNLTR-ND; Sirius Stock Code: A063-AGC10300001226
footprint CAP0603 (CAPACITOR 0603)
pins: 1, 2

## CAP0603_43nF_100V
designator C?, comment 43nF 100V
4300 pF ±5% 100V Ceramic Capacitor C0G, NP0 1206 (3216 Metric)); Manufacturer Part Number: C0603C122K5RAC7867; Order Code: DIGI:1276-CL10B104KB8NNNLTR-ND; Sirius Stock Code: A063-AGC10300001226; Value: 43pF 50V
footprint CAP0603 (CAPACITOR 0603)
pins: 1, 2

## CAP0603_47PF_50V
designator C?, comment value 47pF 50V  (hidden comment: CAP CER 47PF 50V C0G/NPO 0603)
47 pF ±5% 50V Ceramic Capacitor C0G, NP0 0603 (1608 Metric); Manufacturer Part Number: CC0603JRNPO9BN470; Order Code: DIGI : 311-1065-2-ND; LCSC Manufacturer Part Number: CC0603JRNPO9BN470; LCSC Part Number: C105622
footprint SMC0603
pins: 1, 2

## CAP0603_56PF_50V
designator C?, comment value 56pF 50V  (hidden comment: CAP CER 56PF 50V C0G/NPO 0603)
56 pF ±5% 50V Ceramic Capacitor C0G, NP0 0603 (1608 Metric); Manufacturer Part Number: CC0603JRNPO9BN560; Order Code: DIGI : 311-1066-2-ND; LCSC Manufacturer Part Number: CC0603JRNPO9BN560; LCSC Part Number: C107053
footprint SMC0603
pins: 1, 2

## CAP0603_100nF
designator C?, comment value 100nF  (hidden comment: 100nF 25V)
0.1 µF ±10% 50V Ceramic Capacitor X7R 0603 (1608 Metric); Manufacturer Part Number: CL10B104KA8NNNC; LCSC Part Number: C1590
footprint CAP0603 (CAPACITOR 0603)
pins: 1, 2

## CAP0603_100nF_1
designator C?, comment 100nF
CAP CER 0.1UF 50V X7R 0603; P/N: C0603C104K5RACTU; Value: 100nF 50V; Order Code: DIGI : 399-5089-1-ND
footprint CAP0603 (CAPACITOR 0603)
pins: 1, 2

## CAP0603_100nF_2
designator C?, comment 100nF
CAP CER 0.1UF 50V X7R 0603; P/N: C0603C104K5RACTU; Value: 100nF 50V; Order Code: DIGI : 399-5089-1-ND
footprint CAP0603 (CAPACITOR 0603)
pins: 1, 2

## CAP0603_100nF_3
designator C?, comment 100nF
CAP CER 0.1UF 50V X7R 0603; P/N: C0603C104K5RACTU; Value: 100nF 50V; Order Code: DIGI : 399-5089-1-ND
footprint CAP0603 (CAPACITOR 0603)
pins: 1, 2

## CAP0603_100nF_4
designator C?, comment 100nF
CAP CER 0.1UF 50V X7R 0603; P/N: C0603C104K5RACTU; Value: 100nF 50V; Order Code: DIGI : 399-5089-1-ND
footprint CAP0603 (CAPACITOR 0603)
pins: 1, 2

## CAP0603_100nF_50V
designator C?, comment 100nF
0.1 µF ±10% 50V Ceramic Capacitor X7R 0603 (1608 Metric); Manufacturer Name: KEMET; Manufacturer Part Number: C0603C104K5RAC7867; Datasheet Link: https://componentsearchengine.com/Datasheets/1/06031A100FAT2A.pdf; Height: 0.9mm
footprint CAP0603
pins: 1, 2

## CAP0603_100PF
designator C?, comment value 100pF 50V  (hidden comment: CAP CER 100PF 50V C0G/NP0 0603)
100 pF ±5% 50V Ceramic Capacitor C0G, NP0 0603 (1608 Metric); Manufacturer Part Number: CL10C101JB8NNNC; LCSC Part Number: C14858
footprint CAP0603 (CAPACITOR 0603)
pins: 1, 2

## CAP0603_100PF_50V
designator C?, comment value 100pF 50V  (hidden comment: CAP CER 100PF 50V C0G/NP0 0603)
100 pF ±5% 50V Ceramic Capacitor C0G, NP0 0603 (1608 Metric); Manufacturer Part Number: 06035A101JAT2A; LCSC Manufacturer Part Number: CC0603JRNPO9BN101; Order Code: DIGI: 478-1175-2-ND; Sirius Stock Code: *; LCSC Part Number: C14665
footprint SMC0603
pins: 1, 2

## CAP0603_100PF_50V_1
designator C?, comment value 100pF 50V  (hidden comment: CAP CER 100PF 50V C0G/NP0 0603)
100 pF ±5% 50V Ceramic Capacitor C0G, NP0 0603 (1608 Metric); Manufacturer Part Number: CL10C101JB81PNC; Order Code: DIGI: 1276-2162-2-ND
footprint SMC0603
pins: 1, 2

## CAP0603_220PF_100V
designator C?, comment value 220pF 100V  (hidden comment: CAP CER 220PF 100V X7R 0603)
220 pF ±10% 100V Ceramic Capacitor X7R 0603 (1608 Metric); Manufacturer Part Number: CL10B221KC85PNC; Order Code: DIGI: 1276-6988-2-ND
footprint SMC0603
pins: 1, 2

## CAP0603_360PF_100V
designator C?, comment value 360pF 100V  (hidden comment: CAP CER 360PF 100V C0G/NP0 0603)
360 pF ±1% 100V Ceramic Capacitor C0G, NP0 0603 (1608 Metric); Manufacturer Part Number: GCM1885C2A361FA16D; Order Code: DIGI: 490-GCM1885C2A361FA16DTR-ND
footprint SMC0603
pins: 1, 2

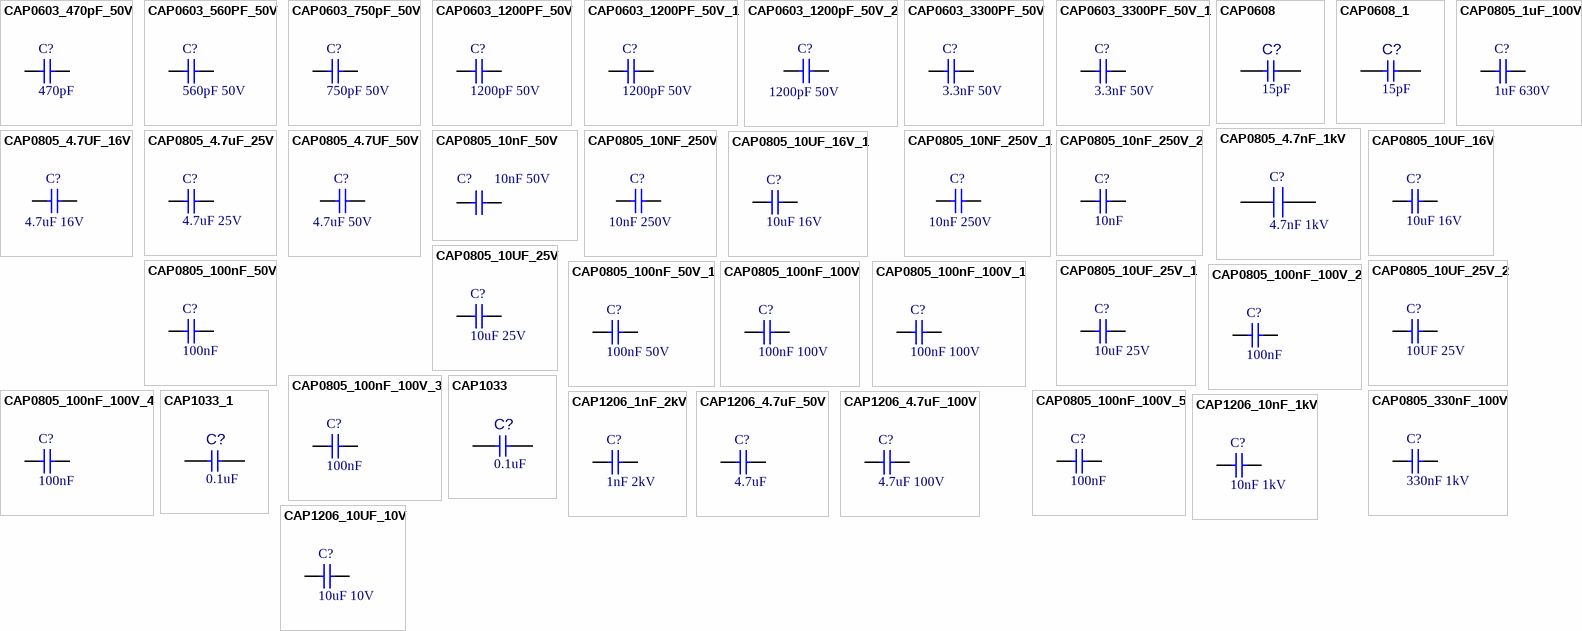
[diagram p8: symbols CAP0603_470pF_50V to CAP1206_10UF_10V]

## CAP0603_470pF_50V
designator C?, comment 470pF
470 pF ±5% 50V Ceramic Capacitor X7R 0603 (1608 Metric); Manufacturer Part Number: CL10B471JB8NNNC; Value: 470pF 50V; Order Code: DIGI : 399-1061-1-ND
footprint CAP0603
pins: 1, 2

## CAP0603_560PF_50V
designator C?, comment value 560pF 50V  (hidden comment: CAP CER 560PF 50V X7R 0603)
560 pF ±10% 50V Ceramic Capacitor X7R 0603 (1608 Metric); Manufacturer Part Number: CC0603KRX7R9BB561; Order Code: DIGI : 311-1079-2-ND; LCSC Manufacturer Part Number: CC0603KRX7R9BB561; LCSC Part Number: C107094
footprint SMC0603
pins: 1, 2

## CAP0603_750pF_50V
designator C?, comment 750pF 50V
750 pF ±5% 50V Ceramic Capacitor C0G, NP0 0603 (1608 Metric); Manufacturer Part Number: GRM1885C1H751JA01D; Order Code: DIGI:1276-CL10B104KB8NNNLTR-ND; Sirius Stock Code: A063-AGC10300001226; Value: 750pF 50V
footprint CAP0603 (CAPACITOR 0603)
pins: 1, 2

## CAP0603_1200PF_50V
designator C?, comment value 1200pF 50V  (hidden comment: CAP CER 1200PF 50V X7R 0603)
1200 pF ±10% 50V Ceramic Capacitor X7R 0603 (1608 Metric); Manufacturer Part Number: C0603C122K5RAC7867; Order Code: DIGI : 399-C0603C122K5RAC7867TR-ND; LCSC Manufacturer Part Number: C0603C122K5RAC7867; LCSC Part Number: C2168436
footprint SMC0603
pins: 1, 2

## CAP0603_1200PF_50V_1
designator C?, comment value 1200pF 50V  (hidden comment: CAP CER 1200PF 50V X7R 0603)
1200 pF ±10% 50V Ceramic Capacitor X7R 0603 (1608 Metric); Manufacturer Part Number: C0603C122K5RAC7867; Order Code: DIGI : 399-C0603C122K5RAC7867TR-ND; LCSC Manufacturer Part Number: C0603C122K5RAC7867; LCSC Part Number: C2168436
footprint SMC0603
pins: 1, 2

## CAP0603_1200pF_50V_2
designator C?, comment 1200pF 50V
1200 pF ±10% 50V Ceramic Capacitor X7R 0603 (1608 Metric); Manufacturer Part Number: C0603C122K5RAC7867; Order Code: DIGI:1276-CL10B104KB8NNNLTR-ND; Sirius Stock Code: A063-AGC10300001226; Value: 1200pF 50V
footprint CAP0603 (CAPACITOR 0603)
pins: 1, 2

## CAP0603_3300PF_50V
designator C?, comment value 3.3nF 50V  (hidden comment: CAP CER 3300PF 50V X7R 0603)
3300 pF ±10% 50V Ceramic Capacitor X7R 0603 (1608 Metric); Manufacturer Part Number: CC0603KRX7R9BB332; Order Code: Digi: 311-1082-2-ND; Sirius Stock Code: *; LCSC Part Number: C107088; LCSC Manufacturer Part Number: CC0603KRX7R9BB332
footprint SMC0603
pins: 1, 2

## CAP0603_3300PF_50V_1
designator C?, comment value 3.3nF 50V  (hidden comment: CAP CER 3300PF 50V X7R 0603)
3300 pF ±10% 50V Ceramic Capacitor X7R 0603 (1608 Metric); Manufacturer Part Number: CC0603KRX7R9BB332; Order Code: Digi: 311-1082-2-ND; Sirius Stock Code: *; LCSC Part Number: C107088; LCSC Manufacturer Part Number: CC0603KRX7R9BB332
footprint SMC0603
pins: 1, 2

## CAP0608
designator C?, comment 15pF
CAP CER 15PF 50V C0G/NP0 0402; Manufacturer: Murata; Manufacturer Part Number: GRM1555C1H150JA01D; Value: 15pF; Voltage: 50V; Revision: 1; Supplier Part Number: 490-5888-2-ND
footprint 0402_C (MODIFIED BY DN_MH - 16JAN17; CHECKED BY DN_TN - 18JAN17)
pins: 1, 2

## CAP0608_1
designator C?, comment 15pF
CAP CER 15PF 50V C0G/NP0 0402; Manufacturer: Murata; Manufacturer Part Number: GRM1555C1H150JA01D; Value: 15pF; Voltage: 50V; Revision: 1; Supplier Part Number: 490-5888-2-ND
footprint 0402_C (MODIFIED BY DN_MH - 16JAN17; CHECKED BY DN_TN - 18JAN17)
pins: 1, 2

## CAP0805_1uF_100V
designator C?, comment 1uF 630V
1 µF ±10% 100V Ceramic Capacitor X7R 0805 (2012 Metric); Manufacturer Part Number: 08051C105K4Z2A; Value: 1uF 100V; Order Code: DIGI : 399-1061-1-ND
footprint CAP0805
pins: 1, 2

## CAP0805_4.7nF_1kV
designator C?, comment 4.7nF 1kV
4700 pF ±10% 1000V (1kV) Ceramic Capacitor X7R 0805 (2012 Metric); Manufacturer_Name: Samsung Electro-Mechanics; Manufacturer Part Number: C0805C472KDRAC7800; Datasheet Link: https://www.yageo.com/upload/media/product/productsearch/datasheet/mlcc/UPY-GPHC_X5R_4V-to-50V_27.pdf; Height: 1.45mm; Value: 4.7nF 1kV; Mouser Price/Stock: https://www.mouser.co.uk/ProductDetail/YAGEO/CC0805KKX5R8BB106?qs=57cj7OiSijm89pM64t1AGQ%3D%3D
footprint CAP0805
pins: 1, 2

## CAP0805_4.7UF_16V
designator C?, comment value 4.7uF 16V  (hidden comment: CAP CER 4.7UF 16V X7R 0805)
4.7 µF ±10% 16V Ceramic Capacitor X7R 0805 (2012 Metric); Manufacturer Part Number: GCM21BR71C475KA73K; Order Code: DIGI: 490-14532-2-ND
footprint SMC0805
pins: 1, 2

## CAP0805_4.7uF_25V
designator C?, comment 4.7uF 25V
4.7 µF ±10% 25V Ceramic Capacitor X5R 0805 (2012 Metric); Manufacturer_Name: Samsung Electro-Mechanics; Manufacturer Part Number: CL21A475KAQNNNE; Datasheet Link: https://www.yageo.com/upload/media/product/productsearch/datasheet/mlcc/UPY-GPHC_X5R_4V-to-50V_27.pdf; Height: 1.45mm; Mouser Part Number: 603-CC805KKX5R8BB106; Mouser Price/Stock: https://www.mouser.co.uk/ProductDetail/YAGEO/CC0805KKX5R8BB106?qs=57cj7OiSijm89pM64t1AGQ%3D%3D
footprint CAP0805
pins: 1, 2

## CAP0805_4.7UF_50V
designator C?, comment value 4.7uF 50V  (hidden comment: CAP CER 4.7UF 50V X5R 0805)
4.7 µF ±10% 50V Ceramic Capacitor X5R 0805 (2012 Metric); Manufacturer Part Number: GRT21BR61H475KE13L; Order Code: DIGI: 490-12394-2-ND
footprint SMC0805
pins: 1, 2

## CAP0805_10nF_50V
designator C?, comment 10nF 50V
10000 pF ±10% 50V Ceramic Capacitor X7R 0805 (2012 Metric); Manufacturer_Name: TDK Corporation; Manufacturer Part Number: 08055C103KAT2A; Datasheet Link: https://www.yageo.com/upload/media/product/productsearch/datasheet/mlcc/UPY-GPHC_X5R_4V-to-50V_27.pdf; Height: 1.45mm; Mouser Part Number: 603-CC805KKX5R8BB106; Mouser Price/Stock: https://www.mouser.co.uk/ProductDetail/YAGEO/CC0805KKX5R8BB106?qs=57cj7OiSijm89pM64t1AGQ%3D%3D
footprint CAP0805
pins: 1, 2

## CAP0805_10NF_250V
designator C?, comment value 10nF 250V  (hidden comment: CAP CER 10NF 250V X7R 0805)
250V 10nF X7R ±10% 0805 Multilayer Ceramic Capacitors MLCC - SMD/SMT ROHS; Manufacturer Part Number: TCC0805X7R103K251DT; Order Code: LCSC: C282726; LCSC Manufacturer Part Number: TCC0805X7R103K251DT; LCSC Part Number: C282726
footprint SMC0805
pins: 1, 2

## CAP0805_10NF_250V_1
designator C?, comment value 10nF 250V  (hidden comment: CAP CER 10NF 250V X7R 0805)
250V 10nF X7R ±10% 0805 Multilayer Ceramic Capacitors MLCC - SMD/SMT ROHS; Manufacturer Part Number: TCC0805X7R103K251DT; Order Code: LCSC: C282726; LCSC Manufacturer Part Number: TCC0805X7R103K251DT; LCSC Part Number: C282726
footprint SMC0805
pins: 1, 2

## CAP0805_10nF_250V_2
designator C?, comment 10nF
CAP CER 10000PF 250V X7R 0805; P/N: CGA4J3X7R2E103K125AE; Order Code: DIGI : 445-8781-1-ND; Value: 10nF
footprint CAP0805
pins: 1, 2

## CAP0805_10UF_16V
designator C?, comment value 10uF 16V  (hidden comment: CAP CER 10UF 16V X7R 0805)
10 µF ±10% 16V Ceramic Capacitor X7R 0805 (2012 Metric); Manufacturer Part Number: CL21B106KOQNNNE; Order Code: DIGI: 1276-2872-2-ND; Sirius Stock Code: *; LCSC Manufacturer Part Number: CL21B106KOQNNNE; LCSC Part Number: C95841
footprint CAP0805
pins: 1, 2

## CAP0805_10UF_16V_1
designator C?, comment value 10uF 16V  (hidden comment: CAP CER 10UF 16V X7R 0805)
10 µF ±10% 16V Ceramic Capacitor X7R 0805 (2012 Metric); Manufacturer Part Number: CL21B106KOQNNNE; Order Code: DIGI: 1276-2872-2-ND; Sirius Stock Code: *; LCSC Manufacturer Part Number: CL21B106KOQNNNE; LCSC Part Number: C95841
footprint CAP0805
pins: 1, 2

## CAP0805_10UF_25V
designator C?, comment value 10uF 25V  (hidden comment: CAP CER 10UF 25V X5R 0805)
10 µF ±10% 25V Ceramic Capacitor X5R 0805 (2012 Metric); Manufacturer Part Number: CL21A106KAYNNNE; Order Code: DIGI: 1276-2891-2-ND; Sirius Stock Code: *; LCSC Manufacturer Part Number: CL21A106KAYNNNE; LCSC Part Number: C15850
footprint SMC0805
pins: 1, 2

## CAP0805_10UF_25V_1
designator C?, comment value 10uF 25V  (hidden comment: CAP CER 10UF 25V X5R 0805)
10 µF ±10% 25V Ceramic Capacitor X5R 0805 (2012 Metric); Manufacturer Part Number: CL21A106KAYNNNE; Order Code: DIGI: 1276-2891-2-ND; Sirius Stock Code: *; LCSC Manufacturer Part Number: CL21A106KAYNNNE; LCSC Part Number: C15850
footprint SMC0805
pins: 1, 2

## CAP0805_10UF_25V_2
designator C?, comment 10UF 25V
10 µF ±10% 25V Ceramic Capacitor X5R 0805 (2012 Metric); Manufacturer_Name: Yageo; Manufacturer Part Number: CC0805KKX5R8BB106; Datasheet Link: https://www.yageo.com/upload/media/product/productsearch/datasheet/mlcc/UPY-GPHC_X5R_4V-to-50V_27.pdf; Height: 1.45mm; Mouser Part Number: 603-CC805KKX5R8BB106; Mouser Price/Stock: https://www.mouser.co.uk/ProductDetail/YAGEO/CC0805KKX5R8BB106?qs=57cj7OiSijm89pM64t1AGQ%3D%3D
footprint CAP0805
pins: 1, 2

## CAP0805_100nF_50V
designator C?, comment 100nF
0.1 µF ±10% 50V Ceramic Capacitor X7R 0805 (2012 Metric); Manufacturer Part Number: CGA4J2X7R1H104K125AA; Manufacturer_Name: TDK Corporation; Datasheet Link: https://www.yageo.com/upload/media/product/productsearch/datasheet/mlcc/UPY-GPHC_X5R_4V-to-50V_27.pdf; Height: 1.45mm; Mouser Part Number: 603-CC805KKX5R8BB106; Mouser Price/Stock: https://www.mouser.co.uk/ProductDetail/YAGEO/CC0805KKX5R8BB106?qs=57cj7OiSijm89pM64t1AGQ%3D%3D
footprint CAP0805
pins: 1, 2

## CAP0805_100nF_50V_1
designator C?, comment 100nF 50V
0.1 µF ±10% 50V Ceramic Capacitor X7R 0805 (2012 Metric); Manufacturer Part Number: CGA4J2X7R1H104K125AA; Manufacturer_Name: TDK Corporation; Datasheet Link: https://www.yageo.com/upload/media/product/productsearch/datasheet/mlcc/UPY-GPHC_X5R_4V-to-50V_27.pdf; Height: 1.45mm; Mouser Part Number: 603-CC805KKX5R8BB106; Mouser Price/Stock: https://www.mouser.co.uk/ProductDetail/YAGEO/CC0805KKX5R8BB106?qs=57cj7OiSijm89pM64t1AGQ%3D%3D
footprint CAP0805
pins: 1, 2

## CAP0805_100nF_100V
designator C?, comment value 100nF 100V  (hidden comment: CAP CER 0.1UF 100V X7R 0805)
0.1 µF ±10% 100V Ceramic Capacitor X7R 0805 (2012 Metric); Manufacturer Part Number: CL21B104KCFNNNE; Order Code: DIGI : 1276-6840-1-ND; LCSC Manufacturer Part Number: CL21B104KCFNNNE; LCSC Part Number: C28233
footprint SMC0805
pins: 1, 2

## CAP0805_100nF_100V_1
designator C?, comment value 100nF 100V  (hidden comment: CAP CER 0.1UF 100V X7R 0805)
0.1 µF ±10% 100V Ceramic Capacitor X7R 0805 (2012 Metric); Manufacturer Part Number: CL21B104KCFNNNE; Order Code: DIGI : 1276-6840-1-ND; LCSC Manufacturer Part Number: CL21B104KCFNNNE; LCSC Part Number: C28233
footprint SMC0805
pins: 1, 2

## CAP0805_100nF_100V_2
designator C?, comment 100nF
CAP CER 0.1UF 100V X7R 0805; P/N: CL21B104KCFNNNE; Value: 100nF 100V; Order Code: DIGI : 1276-6840-1-ND
footprint CAP0805 (CAPACITOR 0805)
pins: 1, 2

## CAP0805_100nF_100V_3
designator C?, comment 100nF
CAP CER 0.1UF 100V X7R 0805; P/N: CL21B104KCFNNNE; Value: 100nF 100V; Order Code: DIGI : 1276-6840-1-ND
footprint CAP0805 (CAPACITOR 0805)
pins: 1, 2

## CAP0805_100nF_100V_4
designator C?, comment 100nF
CAP CER 0.1UF 100V X7R 0805; P/N: CL21B104KCFNNNE; Value: 100nF 100V; Order Code: DIGI : 1276-6840-1-ND
footprint CAP0805 (CAPACITOR 0805)
pins: 1, 2

## CAP0805_100nF_100V_5
designator C?, comment 100nF
CAP CER 0.1UF 100V X7R 0805; P/N: CL21B104KCFNNNE; Value: 100nF 100V; Order Code: DIGI : 1276-6840-1-ND
footprint CAP0805 (CAPACITOR 0805)
pins: 1, 2

## CAP0805_330nF_100V
designator C?, comment 330nF 1kV
330nF  ±10% 100V Ceramic Capacitor X7S 0805 (2012 Metric); Manufacturer Part Number: CGA4J3X7S2A334K125AB; Value: 330nF 100V; Order Code: DIGI : 399-1061-1-ND
footprint CAP0805
pins: 1, 2

## CAP1033
designator C?, comment 0.1uF
CAP CER 0.1UF 50V X7R 0402; Manufacturer: TDK Corporation; Manufacturer Part Number: C1005X7R1H104K050BB; Voltage: 16V; Value: 0.1uF; Revision: 2; Supplier Part Number: 445-5932-1-ND
footprint 0402_C (MODIFIED BY DN_MH - 16JAN17; CHECKED BY DN_TN - 18JAN17)
pins: 1, 2

## CAP1033_1
designator C?, comment 0.1uF
CAP CER 0.1UF 50V X7R 0402; Manufacturer: TDK Corporation; Manufacturer Part Number: C1005X7R1H104K050BB; Voltage: 16V; Value: 0.1uF; Revision: 2; Supplier Part Number: 445-5932-1-ND
footprint 0402_C (MODIFIED BY DN_MH - 16JAN17; CHECKED BY DN_TN - 18JAN17)
pins: 1, 2

## CAP1206_1nF_2kV
designator C?, comment 1nF 2kV
1000 pF ±10% 2000V (2kV) Ceramic Capacitor X7R 1206 (3216 Metric); Manufacturer Part Number: CC1206KKX7RDBB102; Order Code: DIGI : 445-180362-1-ND; Value: 1nF 2kV
footprint CAP1206
pins: 1, 2

## CAP1206_4.7uF_50V
designator C?, comment 4.7uF
4.7 µF ±10% 50V Ceramic Capacitor X5R 1206 (3216 Metric); Manufacturer Part Number: CL31A475KBHNNNE; Value: 4.7uF 50V; Order Code: DIGI : 399-1061-1-ND
footprint CAP1206
pins: 1, 2

## CAP1206_4.7uF_100V
designator C?, comment 4.7uF 100V
4.7 µF ±10% 100V Ceramic Capacitor X7S 1206 (3216 Metric); Manufacturer Part Number: 12061Z475KAT2A; Order Code: DIGI : 445-180362-1-ND; Value: 4.7uF 100V
footprint CAP1206
pins: 1, 2

## CAP1206_10nF_1kV
designator C?, comment 10nF 1kV
10000 pF ±10% 1000V (1kV) Ceramic Capacitor X7R 1206 (3216 Metric); Manufacturer Part Number: C1206X103KDRACAUTO; Order Code: DIGI : 445-180362-1-ND; Value: 10nF 1kV
footprint CAP1206
pins: 1, 2

## CAP1206_10UF_10V
designator C?, comment value 10uF 10V  (hidden comment: CAP CER 10UF 10V X7R 1206)
10 µF ±10% 10V Ceramic Capacitor X7R 1206 (3216 Metric); Manufacturer Part Number: CL31B106KPHNNNE; Order Code: Digi: 1276-1311-2-ND; Sirius Stock Code: *; LCSC Part Number: C96449; LCSC Manufacturer Part Number: CL31B106KPHNNNE
footprint SMC1206
pins: 1, 2

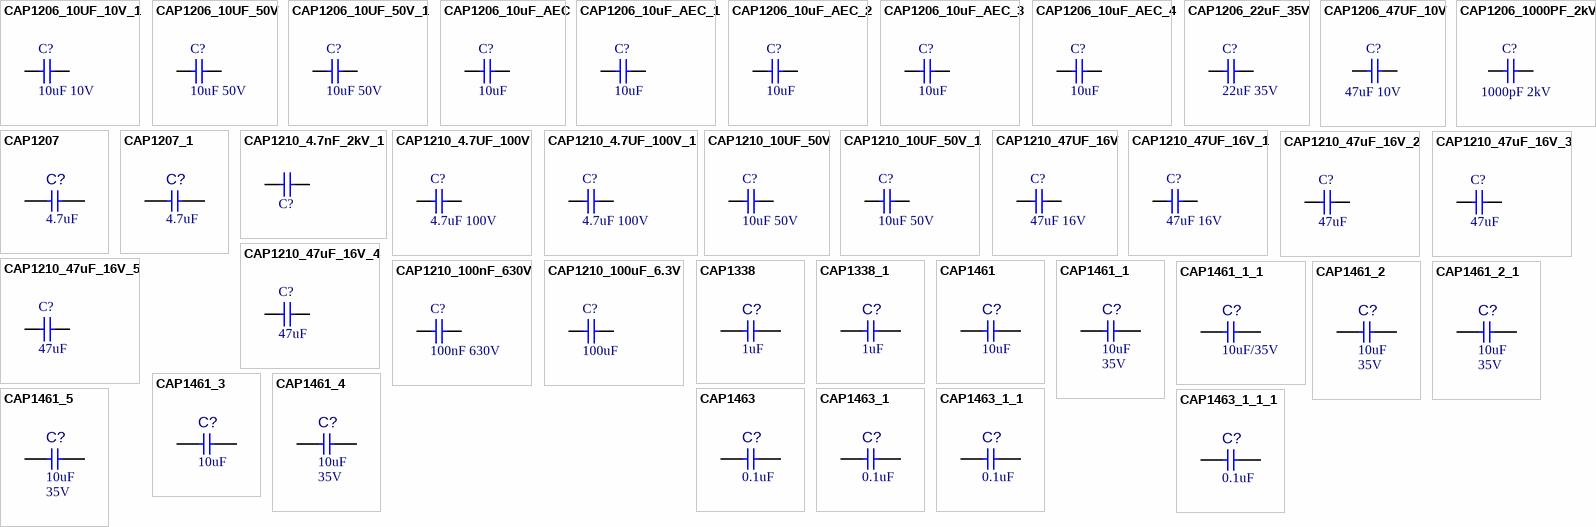
[diagram p9: symbols CAP1206_10UF_10V_1 to CAP1463_1_1_1]

## CAP1206_10UF_10V_1
designator C?, comment value 10uF 10V  (hidden comment: CAP CER 10UF 10V X7R 1206)
10 µF ±10% 10V Ceramic Capacitor X7R 1206 (3216 Metric); Manufacturer Part Number: CL31B106KPHNNNE; Order Code: Digi: 1276-1311-2-ND; Sirius Stock Code: *; LCSC Part Number: C96449; LCSC Manufacturer Part Number: CL31B106KPHNNNE
footprint SMC1206
pins: 1, 2

## CAP1206_10UF_50V
designator C?, comment value 10uF 50V  (hidden comment: CAP CER 10UF 50V X5R 1206)
10 µF ±10% 50V Ceramic Capacitor X5R 1206 (3216 Metric); Manufacturer Part Number: CL31A106KBHNNNE; Order Code: Digi: 1276-2876-2-ND; Sirius Stock Code: *; LCSC Part Number: C13585; LCSC Manufacturer Part Number: CL31A106KBHNNNE
footprint SMC1206
pins: 1, 2